# Altium schematic symbol library iMX6 Rex Development Baseboard V1I1.SCHLIB: 136 symbols (part 1 of 3)
Pins are listed as number, name and electrical type; pins without a type are passive.

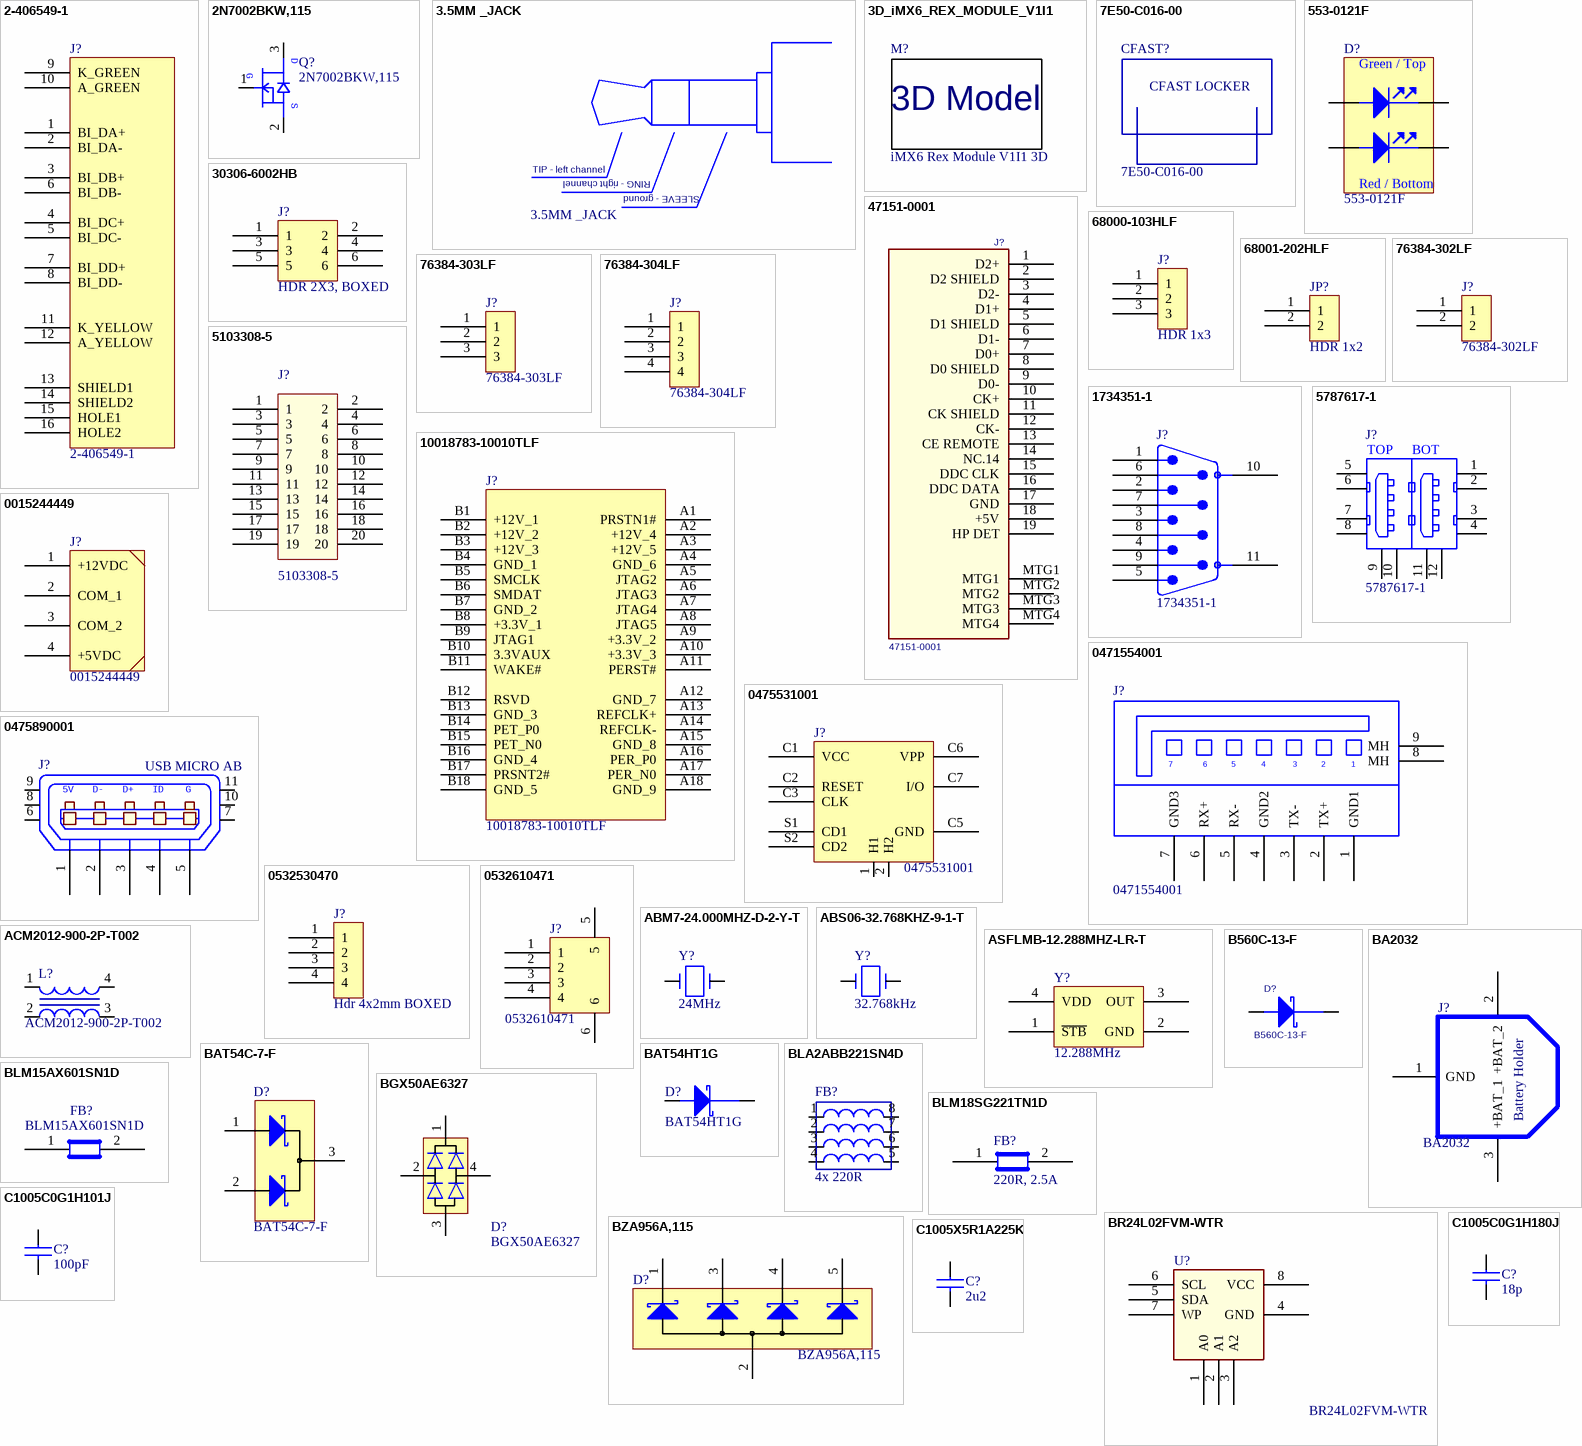
[diagram p0: symbols 2-406549-1 to C1005X5R1A225K]

## 2-406549-1
designator J?
CONN MOD JACK 8POS R/A G-Y PCB; Manufacturer: Tyco; .Checked PCB: used; Number of Positions: 8p8c (RJ45, Ethernet); Number of Ports: 1; Shielding: Shielded, EMI Finger; Ratings: Cat5; LED Color: Yellow - Green; Tab Direction: Up; .Checked SCH: used; Category: Connectors, Interconnects; Connector Type: Jack; Manufacturer Part Number: 2-406549-1; Price 1k [$]: 1.73278; Supplier: Digikey; Supplier Part Number: A97715-ND; Value: 2-406549-1; Supplier 1: Digi-Key; Supplier Part Number 1: A97715-ND; RoHS: RoHS Compliant; Stock 1: 9021; Pricing 1: 1=3.42 (USD); Number of Positions/Contacts: 8p8c (RJ45, Ethernet); Number of Rows: 1; Mounting Type: Through Hole; Orientation: 90° Angle (Right); Termination: Solder; Features: Board Lock; Packaging: Tray; Housing Material: Thermoplastic; Contact Material: Phosphor Bronze; Contact Finish: Gold; Operating Temperature: -40°C ~ 85°C; ComponentLink1URL: http://documents.tycoelectronics.com/commerce/DocumentDelivery/DDEController?Action=srchrtrv&DocNm=406549&DocType=CD&DocLang=EN; ComponentLink1Description: http://documents.tycoelectronics.com/commerce/DocumentDelivery/DDEController?Action=srchrtrv&DocNm=406549&DocType=CD&DocLang=EN
footprint RJ45LED
pins: 1 BI_DA+, 2 BI_DA-, 3 BI_DB+, 4 BI_DC+, 5 BI_DC-, 6 BI_DB-, 7 BI_DD+, 8 BI_DD-, 9 K_GREEN, 10 A_GREEN, 11 K_YELLOW, 12 A_YELLOW, 13 SHIELD1, 14 SHIELD2, 15 HOLE1, 16 HOLE2

## 2N7002BKW,115
designator Q?
MOSFET N-CH 60V 310MA SOT323; Manufacturer: NXP Semiconductors; FET Type: MOSFET N-Channel, Metal Oxide; FET Feature: Logic Level Gate; Rds On (Max) @ Id, Vgs: 1.6 Ohm @ 500mA, 10V; Vgs(th) (Max) @ Id: 2.1V @ 250µA; Gate Charge (Qg) @ Vgs: 0.6nC @ 4.5V; Input Capacitance (Ciss) @ Vds: 50pF @ 10V; Power - Max: 275mW; .Checked PCB: RF; Supplier 1: Digi-Key; Supplier Part Number 1: 568-5980-1-ND; Manufacturer Part Number: 2N7002BKW,115; RoHS: RoHS Compliant; Category: Discrete Semiconductor Products; Stock 1: 15666; Pricing 1: 1=0.39, 10=0.354, 25=0.2548, 100=0.1983, 250=0.12456, 500=0.10616, 1000=0.07233 (USD); Drain to Source Voltage (Vdss): 60V; Current - Continuous Drain (Id) @ 25° C: 310mA; Mounting Type: Surface Mount; Package / Case: SC-70, SOT-323; Supplier Device Package: SC-70; Packaging: Cut Tape (CT); ComponentLink1URL: http://www.nxp.com/documents/data_sheet/2N7002BKW.pdf; ComponentLink1Description: http://www.nxp.com/documents/data_sheet/2N7002BKW.pdf; .Checked SCH: RF
footprint SC70_SOT323
pins: 1 GATE, 2 SOURCE, 3 DRAIN
text: D; G; S

## 3.5MM _JACK
designator *?  (graphical)
text: TIP - left channel; RING - right channel; SLEEVE - ground

## 3D_iMX6_REX_MODULE_V1I1
designator M?, comment iMX6 Rex Module V1I1 3D  (no BOM)
Printed Circuit Board; .Creator: MM; Category: 3D Model
footprint iMX6 Rex Module 3D (.Creator MM)

## 7E50-C016-00
designator CFAST?
CF CARD EJECT/LATCHING RETAINER; Manufacturer: 3M; Accessory Type: Latch Retainer; For Use With/Related Products: CompactFlash® - Type II; .Checked PCB: RF; Supplier 1: Digi-Key; Supplier Part Number 1: 3M9681-ND; Manufacturer Part Number: 7E50-C016-00; RoHS: RoHS Compliant; Category: Connectors, Interconnects; Stock 1: 1200; Pricing 1: 1=2.62, 10=2.377, 50=2.134, 100=2.037, 250=1.843, 500=1.6975, 1000=1.455, 2500=1.358, 5000=1.2901 (USD); Packaging: Tray; ComponentLink1URL: http://multimedia.3m.com/mws/mediawebserver?mwsId=SSSSSu7zK1fslxtUmYtxPY_Zev7qe17zHvTSevTSeSSSSSS--; ComponentLink1Description: http://multimedia.3m.com/mws/mediawebserver?mwsId=SSSSSu7zK1fslxtUmYtxPY_Zev7qe17zHvTSevTSeSSSSSS--; .Checked SCH: RF
footprint CFAST_LOCKER
text: CFAST LOCKER

## 553-0121F
designator D?
LED 2HI 3MM GREEN OVER RED PCMNT; Manufacturer: Dialight; .Checked PCB: used; Color: Green, Red; Wavelength - Peak: 563nm, 650nm; Voltage Rating: 2.1V Green, 2V Red; Current: 10mA; Millicandela Rating: 16mcd Green, 10mcd Red; Lens Type: Diffused, Tinted; Lens Style/Size: Round with Domed Top, 3mm; Configuration: 2 High; .Checked SCH: used; Category: Optoelectronics; Family: LEDs - Circuit Board Indicators, Arrays, Light Bars, Bar Graphs; Manufacturer Part Number: 553-0121F; Price 1k [$]: 0.63000; Supplier: Digikey; Supplier Part Number: 350-1822-ND; Value: 553-0121F; Supplier 1: Digi-Key; Supplier Part Number 1: 350-1822-ND; RoHS: RoHS Compliant; Stock 1: 5551; Pricing 1: 1=1.68, 25=1.05, 100=0.945, 250=0.84, 500=0.714, 1000=0.588, 5000=0.525 (USD); Viewing Angle: -; Mounting Type: Through Hole, Right Angle; Packaging: Bulk; ComponentLink1URL: http://www.dialight.com/Assets/Drawings/2D_Drawings_DrawingDetailedSpec/C17277.pdf; ComponentLink1Description: http://www.dialight.com/Assets/Drawings/2D_Drawings_DrawingDetailedSpec/C17277.pdf
footprint 553-0121F
pins: 1 cathode, 2 ANODE, 3 cathode, 4 ANODE
text: Green / Top; Red / Bottom

## 30306-6002HB
designator J?, comment HDR 2X3, BOXED
CONN HEADER 6POS DL STR GOLD; Manufacturer: 3M; Manufacturer Part Number: 30306-6002HB; Connector Type: Header, Shrouded; Number of Positions: 6; Number of Positions Loaded: All; Pitch: 0.100" (2.54mm); .Creator: MM; Supplier 1: Digi-Key; RoHS: RoHS Compliant; Category: Connectors, Interconnects; Stock 1: 1262; Pricing 1: 1=0.64, 10=0.6, 25=0.54, 50=0.48, 100=0.46, 250=0.42, 500=0.4, 1000=0.33, 2500=0.3 (USD); Packaging: Bulk; Contact Type: Male Pin; Number of Rows: 2; Row Spacing: 0.100" (2.54mm); Contact Mating Length: 0.236" (6.00mm); Mounting Type: Through Hole; Termination: Solder; Fastening Type: -; Features: -; Contact Finish: Gold; Contact Finish Thickness: Flash; Color: Black; ComponentLink1URL: http://multimedia.3m.com/mws/mediawebserver?6666660Zjcf6lVs6EVs666UdhCOrrrrQ-; ComponentLink1Description: http://multimedia.3m.com/mws/mediawebserver?6666660Zjcf6lVs6EVs666UdhCOrrrrQ-; Supplier Part Number 1: 3M15451-ND; .Checked PCB: MM; .Checked SCH: MM
footprint HDR_2x3_2.54mm_BOXED (Creator MM)
pins: 1, 2, 3, 4, 5, 6

## 47151-0001
designator J?
CONN RCPT 19POS HDMI RT ANG SMD; Manufacturer: Molex Connector Corporation; .Checked PCB: used; Number of Positions: 19; Pitch: 0.50mm (.020"); Gender: Receptacle; .Checked SCH: used; Category: Connectors, Interconnects; Connector Type: HDMI; Family: USB, IEEE-1394 (Firewire), DVI, HDMI; Manufacturer Part Number: 47151-0001; Operating Temperature: -20°C to +85°C; Price 1k [$]: 1.74610; Supplier: Digikey; Supplier Part Number: WM19086CT-ND; Value: 47151-0001; Supplier 1: Digi-Key; Supplier Part Number 1: WM19086CT-ND; RoHS: RoHS Compliant; Stock 1: 2756; Pricing 1: 1=3.1, 10=2.57, 50=2.1456, 100=1.9034 (USD); Number of Contacts: 19; Specifications: -; Mounting Type: Surface Mount, Right Angle, Horizontal; Features: Detent Lock; Packaging: Cut Tape (CT); Ingress Protection: -; ComponentLink1URL: http://www.molex.com/pdm_docs/sd/471510001_sd.pdf; ComponentLink1Description: http://www.molex.com/pdm_docs/sd/471510001_sd.pdf
footprint HDMI
pins: 1 D2+, 2 D2 SHIELD, 3 D2-, 4 D1+, 5 D1 SHIELD, 6 D1-, 7 D0+, 8 D0 SHIELD, 9 D0-, 10 CK+, 11 CK SHIELD, 12 CK-, 13 CE REMOTE, 14 NC.14, 15 DDC CLK, 16 DDC DATA, 17 GND, 18 +5V, 19 HP DET, MTG1, MTG2, MTG3, MTG4

## 68000-103HLF
designator J?, comment HDR 1x3
BERGSTIK II .100" SR STRAIGHT; Manufacturer: FCI; Manufacturer Part Number: 68000-103HLF; Connector Type: Header, Unshrouded; Number of Positions: 3; Number of Positions Loaded: All; Pitch: 0.100" (2.54mm); .Creator: MM; Supplier 1: Digi-Key; RoHS: RoHS Compliant; Category: Connectors, Interconnects; Stock 1: 37214; Pricing 1: 1=0.15, 10=0.145, 25=0.108, 50=0.0924 (USD); Packaging: Bulk; Contact Type: Male Pin; Number of Rows: 1; Row Spacing: -; Contact Mating Length: 0.230" (5.84mm); Mounting Type: Through Hole; Termination: Solder; Fastening Type: -; Features: -; Contact Finish: Gold or Gold, GXT™; Contact Finish Thickness: 30µin (0.76µm); Color: Black; ComponentLink1URL: http://portal.fciconnect.com/Comergent//fci/drawing/68000.pdf; ComponentLink1Description: http://portal.fciconnect.com/Comergent//fci/drawing/68000.pdf; Supplier Part Number 1: 609-3461-ND; .Checked PCB: MM; .Checked SCH: MM
footprint Hdr_1x3_2.54mm (Creator MM)
pins: 1, 2, 3

## 68001-202HLF
designator JP?, comment HDR 1x2
BERGSTIK II .100" SR STRAIGHT; Manufacturer: FCI; Manufacturer Part Number: 68001-202HLF; Connector Type: Header, Unshrouded; Number of Positions: 2; Number of Positions Loaded: All; Pitch: 0.100" (2.54mm); .Checked PCB: RF; Supplier 1: Digi-Key; Supplier Part Number 1: 609-3469-ND; RoHS: RoHS Compliant; Category: Connectors, Interconnects; Stock 1: 13680; Pricing 1: 1=0.45, 10=0.265, 100=0.1172, 250=0.09828, 500=0.09072, 1000=0.07938, 5000=0.05065 (USD); Contact Type: Male Pin; Number of Rows: 1; Row Spacing: -; Contact Mating Length: 0.230" (5.84mm); Mounting Type: Through Hole; Termination: Solder; Fastening Type: -; Features: -; Contact Finish: Gold; Contact Finish Thickness: 15µin (0.38µm); Color: Black; Packaging: Bulk; ComponentLink1URL: http://portal.fciconnect.com/res/en/pdffiles/doc_search/68000.pdf; ComponentLink1Description: http://portal.fciconnect.com/res/en/pdffiles/doc_search/68000.pdf; .Checked SCH: RF
footprint HDR_1x2_2.54MM
pins: 1, 2

## 76384-302LF
designator J?
CONN HEADER 2POS .100" STR GOLD; Manufacturer: FCI; Connector Type: Header, Shrouded; Number of Positions: 2; Number of Positions Loaded: All; Pitch: 0.100" (2.54mm); .Creator: MM; Supplier 1: Digi-Key; Manufacturer Part Number: 76384-302LF; RoHS: RoHS Compliant; Category: Connectors, Interconnects; Stock 1: 3152; Pricing 1: 1=0.47, 10=0.442, 25=0.3976, 50=0.3532, 100=0.3386, 250=0.30912, 500=0.2944, 1000=0.24288, 2500=0.2208 (USD); Packaging: Tube; Contact Type: Male Pin; Number of Rows: 1; Row Spacing: -; Contact Mating Length: 0.197" (5.00mm); Mounting Type: Through Hole; Termination: Solder; Fastening Type: Friction Lock; Features: -; Contact Finish: Gold, GXT™; Contact Finish Thickness: 30µin (0.76µm); Color: Black; ComponentLink1URL: http://portal.fciconnect.com/Comergent//fci/drawing/76384.pdf; ComponentLink1Description: http://portal.fciconnect.com/Comergent//fci/drawing/76384.pdf; Supplier Part Number 1: 609-1304-ND; .Checked PCB: MM; .Checked SCH: MM
footprint HDR_1x2_2.54MM_SHDR (Creator MM)
pins: 1, 2

## 76384-303LF
designator J?
CONN HEADER 3POS .100" STR GOLD; Manufacturer: FCI; Connector Type: Header, Shrouded; Number of Positions: 3; Number of Positions Loaded: All; Pitch: 0.100" (2.54mm); .Creator: MM; Supplier 1: Digi-Key; Manufacturer Part Number: 76384-303LF; RoHS: RoHS Compliant; Category: Connectors, Interconnects; Stock 1: 1441; Pricing 1: 1=0.59, 10=0.556, 25=0.5, 50=0.4444, 100=0.426, 250=0.38892, 500=0.3704, 1000=0.30558, 2500=0.2778 (USD); Packaging: Tube; Contact Type: Male Pin; Number of Rows: 1; Row Spacing: -; Contact Mating Length: 0.197" (5.00mm); Mounting Type: Through Hole; Termination: Solder; Fastening Type: Friction Lock; Features: -; Contact Finish: Gold, GXT™; Contact Finish Thickness: 30µin (0.76µm); Color: Black; ComponentLink1URL: http://portal.fciconnect.com/Comergent//fci/drawing/76384.pdf; ComponentLink1Description: http://portal.fciconnect.com/Comergent//fci/drawing/76384.pdf; Supplier Part Number 1: 609-1305-ND; .Checked PCB: MM; .Checked SCH: MM
footprint HDR_1x3_2.54MM_SHDR_V2 (Creator MM, Another 3D model.)
pins: 1, 2, 3

## 76384-304LF
designator J?
CONN HEADER 4POS .100" STR GOLD; Manufacturer: FCI; Connector Type: Header, Shrouded; Number of Positions: 4; Number of Positions Loaded: All; Pitch: 0.100" (2.54mm); .Checked PCB: RF; Supplier 1: Digi-Key; Supplier Part Number 1: 609-1306-ND; Manufacturer Part Number: 76384-304LF; RoHS: RoHS Compliant; Category: Connectors, Interconnects; Stock 1: 2388; Pricing 1: 1=1.09, 10=0.762, 100=0.5116, 250=0.4354, 500=0.41364, 1000=0.37009, 5000=0.28954, 10000=0.28301, 25000=0.27213 (USD); Contact Type: Male Pin; Number of Rows: 1; Row Spacing: -; Contact Mating Length: 0.197" (5.00mm); Mounting Type: Through Hole; Termination: Solder; Fastening Type: Friction Lock; Features: -; Contact Finish: Gold, GXT™; Contact Finish Thickness: 30µin (0.76µm); Color: Black; Packaging: Tube; ComponentLink1URL: http://portal.fciconnect.com/res/en/pdffiles/doc_search/76384.pdf; ComponentLink1Description: http://portal.fciconnect.com/res/en/pdffiles/doc_search/76384.pdf; .Checked SCH: RF
footprint HDR_1x4_2.54MM_SHDR
pins: 1, 2, 3, 4

## 1734351-1
designator J?
CONN D-SUB PLUG R/A 9POS GOLD/FL; Manufacturer: TE Connectivity; .Checked PCB: used; Connector Type: Plug, Male Pins; Number of Positions: 9; Flange Feature: Mating Side; Female Screwlock (4-40); Voltage Rating: 250V; Current Rating: 2A; .Checked SCH: used; Category: Connectors, Interconnects; Family: D-Sub; Manufacturer Part Number: 1734351-1; Operating Temperature: -55°C ~ 105°C; Price 1k [$]: 0.63612; Supplier: Digikey; Supplier Part Number: A35105-ND; Value: 1734351-1; Supplier 1: Digi-Key; Supplier Part Number 1: A35105-ND; RoHS: RoHS Compliant; Stock 1: 11510; Pricing 1: 1=1.17, 10=1.026, 25=0.9656, 50=0.9254, 100=0.8852, 250=0.80476, 500=0.72428, 1000=0.64381, 2500=0.58345 (USD); Connector Style: D-Sub; Number of Rows: 2; Shell Size, Connector Layout: 1 (DE, E); Contact Type: Signal; Mounting Type: Through Hole, Right Angle; Termination: Solder; Features: Board Lock, Grounding Indents; Shell Material, Finish: Steel, Nickel Plated; Contact Finish: Gold; Contact Finish Thickness: Flash; Ingress Protection: -; Housing Material: Polybutylene Terephthalate (PBT); Color: Black; ComponentLink1URL: http://documents.tycoelectronics.com/commerce/DocumentDelivery/DDEController?Action=srchrtrv&DocNm=1734351&DocType=CD&DocLang=EN; ComponentLink1Description: http://documents.tycoelectronics.com/commerce/DocumentDelivery/DDEController?Action=srchrtrv&DocNm=1734351&DocType=CD&DocLang=EN
footprint DBA9_M_RA
pins: 1, 2, 3, 4, 5, 6 14, 7 15, 8 16, 9 17, 10 SHIELD, 11 SHIELD

## 5103308-5
designator J?
CONN HEADER LOPRO STR 20POS GOLD; Manufacturer: TE Connectivity; Connector Type: Header, Shrouded; Number of Positions: 20; Number of Positions Loaded: All; Pitch: 0.100" (2.54mm); .Creator: MM; Supplier 1: Digi-Key; Manufacturer Part Number: 5103308-5; RoHS: RoHS Compliant; Category: Connectors, Interconnects; Stock 1: 3482; Pricing 1: 1=1.9, 25=1.6212, 50=1.5508, 100=1.4803, 250=1.33928, 500=1.23356, 1000=1.05734, 2500=0.98685, 5000=0.9375 (USD); Packaging: Tube; Contact Type: Male Pin; Number of Rows: 2; Row Spacing: 0.100" (2.54mm); Contact Mating Length: 0.240" (6.10mm); Mounting Type: Through Hole; Termination: Solder; Fastening Type: -; Features: -; Contact Finish: Gold or Gold-Palladium; Contact Finish Thickness: 15µin (0.38µm); Color: Black; ComponentLink1URL: http://www.te.com/commerce/DocumentDelivery/DDEController?Action=srchrtrv&DocNm=5103308&DocType=Customer+Drawing&DocLang=English; ComponentLink1Description: http://www.te.com/commerce/DocumentDelivery/DDEController?Action=srchrtrv&DocNm=5103308&DocType=Customer+Drawing&DocLang=English; Supplier Part Number 1: A33165-ND; .Checked PCB: MM; .Checked SCH: MM
footprint HDR_2x10_2.54mm_BOXED (Creator MM)
pins: 1, 2, 3, 4, 5, 6, 7, 8, 9, 10, 11, 12, 13, 14, 15, 16, 17, 18, 19, 20

## 5787617-1
designator J?
CONN RCPT R/A 4OVER4POS GOLD PCB; Manufacturer: TE Connectivity; .Checked PCB: used; Connector Type: USB - A, Stacked; Number of Contacts: 8; Gender: Receptacle; Specifications: USB 2.0; .Checked SCH: used; Category: Connectors, Interconnects; Family: USB, IEEE-1394 (Firewire), DVI, HDMI; Manufacturer Part Number: 5787617-1; Price 1k [$]: 1.68753; Supplier: Digikey; Supplier Part Number: A31728-ND; Value: 5787617-1; Supplier 1: Digi-Key; Supplier Part Number 1: A31728-ND; RoHS: RoHS Compliant; Stock 1: 5401; Pricing 1: 1=3.33, 10=3.197, 25=2.9308, 50=2.7978, 100=2.6645, 250=2.33144, 500=2.26484, 1000=1.93178, 2500=1.79855 (USD); Mounting Type: Through Hole, Right Angle, Horizontal; Features: Board Lock; Packaging: Tray; Ingress Protection: -; ComponentLink1URL: http://documents.tycoelectronics.com/commerce/DocumentDelivery/DDEController?Action=srchrtrv&DocNm=5787617&DocType=CD&DocLang=EN; ComponentLink1Description: http://documents.tycoelectronics.com/commerce/DocumentDelivery/DDEController?Action=srchrtrv&DocNm=5787617&DocType=CD&DocLang=EN
footprint USB-2A
pins: 1 VBUS, 2 D-, 3 D+, 4 GND, 5 VBUS2, 6 D2-, 7 D2+, 8 GND, 9 SHIELD, 10 SHIELD, 11 SHIELD, 12 SHIELD
text: TOP; BOT

## 10018783-10010TLF
designator J?
CONN PCI EXPRESS 36POS VERT PCB; Manufacturer 1: FCI; Card Type: PCI Express™; Gender: Female; Number of Positions: 36; Card Thickness: 0.062" (1.57mm); Pitch: 0.039" (1.00mm); Material - Insulation: Polyamide (PA), Nylon, Glass Filled; Read Out: Dual; .Creator: MM; Supplier 1: Digi-Key; RoHS: RoHS Compliant; Category: Connectors, Interconnects; Pricing 1: 1=0.74, 10=0.69, 50=0.552, 100=0.529, 250=0.483, 500=0.46, 1000=0.3795, 2500=0.345, 5000=0.3335 (USD); Packaging: Tray; Number of Positions/Bay/Row: -; Number of Rows: 2; Features: Board Guide, Locking Ramp; Mounting Type: Through Hole; Termination: Solder, Staggered; Contact Material: Copper Alloy; Contact Finish: Gold; Contact Finish Thickness: 30µin (0.76µm); Contact Type: Cantilever; Color: Black; Flange Feature: -; Operating Temperature: -55°C ~ 85°C; ComponentLink1URL: http://portal.fciconnect.com/Comergent//fci/drawing/10018783.pdf; ComponentLink1Description: http://portal.fciconnect.com/Comergent//fci/drawing/10018783.pdf; .Checked PCB: MM; .Checked SCH: MM; Manufacturer Part Number 1: 10018783-10010TLF; Supplier Stock 1: 832; Supplier Part Number 1: 609-1964-ND
footprint Mini_PCIe_36pin (Creator MM)
pins: A1 PRSTN1#, A2 +12V_4, A3 +12V_5, A4 GND_6, A5 JTAG2, A6 JTAG3, A7 JTAG4, A8 JTAG5, A9 +3.3V_2, A10 +3.3V_3, A11 PERST#, A12 GND_7, A13 REFCLK+, A14 REFCLK-, A15 GND_8, A16 PER_P0, A17 PER_N0, A18 GND_9, B1 +12V_1, B2 +12V_2, B3 +12V_3, B4 GND_1, B5 SMCLK, B6 SMDAT, B7 GND_2, B8 +3.3V_1, B9 JTAG1, B10 3.3VAUX, B11 WAKE#, B12 RSVD, B13 GND_3, B14 PET_P0, B15 PET_N0, B16 GND_4, B17 PRSNT2#, B18 GND_5

## 0015244449
designator J?
CONN HEADER 4POS .200 VERT; Manufacturer: Molex Inc; Connector Type: Header, Shrouded; Number of Positions: 4; Number of Positions Loaded: All; Pitch: 0.200" (5.08mm); .Creator: MM; Supplier 1: Digi-Key; Manufacturer Part Number: 0015244449; RoHS: RoHS Compliant; Category: Connectors, Interconnects; Stock 1: 933; Pricing 1: 1=0.83, 10=0.729, 25=0.6864, 50=0.6578, 100=0.6292, 250=0.572, 500=0.5148, 1000=0.4576, 2500=0.4147 (USD); Packaging: Tray; Contact Type: Male Pin; Number of Rows: 1; Row Spacing: -; Contact Mating Length: 0.171" (4.34mm); Mounting Type: Through Hole; Termination: Solder; Fastening Type: Locking Ramp; Features: -; Contact Finish: Tin; Contact Finish Thickness: 100µin (2.54µm); Color: Beige; ComponentLink1URL: http://www.molex.com/pdm_docs/sd/015244449_sd.pdf; ComponentLink1Description: http://www.molex.com/pdm_docs/sd/015244449_sd.pdf; Supplier Part Number 1: WM9132-ND; .Checked PCB: MM; .Checked SCH: MM
footprint 015244449 (Creator MM)
pins: 1 +12VDC, 2 COM_1, 3 COM_2, 4 +5VDC

## 0471554001
designator J?
CONN SATA HDR 7POS PCB VERT; Manufacturer: Molex Inc; Connector Style: Header, Shrouded; Number of Positions: 7; .Checked PCB: RF; Supplier 1: Digi-Key; Supplier Part Number 1: WM4059-ND; Manufacturer Part Number: 0471554001; RoHS: RoHS Compliant; Category: Connectors, Interconnects; Stock 1: 8065; Pricing 1: 1=1.37, 10=1.065, 25=0.9928, 50=0.9026, 100=0.8123, 250=0.68592, 500=0.6498, 1000=0.5776, 2500=0.48013 (USD); Connector Type: SATA; Mounting Type: Through Hole; Termination: Solder; Features: Board Lock; Contact Finish: Gold; Contact Finish Thickness: Flash; Packaging: Tray; ComponentLink1URL: http://www.molex.com/elqNow/elqRedir.htm?ref=http://www.molex.com/pdm_docs/sd/471554001_sd.pdf; ComponentLink1Description: http://www.molex.com/elqNow/elqRedir.htm?ref=http://www.molex.com/pdm_docs/sd/471554001_sd.pdf; .Checked SCH: RF
footprint SATA_VERTICAL
pins: 1 GND1, 2 TX+, 3 TX-, 4 GND2, 5 RX-, 6 RX+, 7 GND3, 8 MH, 9 MH

## 0475531001
designator J?
CONN CARD HOLDER SIM 6POS SMD; Manufacturer: Molex Inc; Card Type: SIM Card; Number of Positions: 8 (6 + 2); Connector Type: Connector; Insertion, Removal Method: Push In, Push Out; .Creator: MM; Supplier 1: Digi-Key; Manufacturer Part Number: 0475531001; RoHS: RoHS Compliant; Category: Connectors, Interconnects; Stock 1: 8474; Pricing 1: 1=2.94, 10=2.822, 25=2.5868, 50=2.4694, 100=2.3518, 250=2.05784 (USD); Packaging: Cut Tape (CT); Ejector Side: -; Mounting Type: Surface Mount, Right Angle; Features: Switch; Height Above Board: 0.071" (1.80mm); Mounting Feature: Normal, Standard - Top; Contact Finish: Gold; Contact Finish Thickness: 30µin (0.76µm); ComponentLink1URL: http://www.molex.com/pdm_docs/sd/475531001_sd.pdf; ComponentLink1Description: http://www.molex.com/pdm_docs/sd/475531001_sd.pdf; Supplier Part Number 1: WM6739CT-ND; .Checked PCB: MM; .Checked SCH: MM
footprint SIM_CARD_PUSH (Creator MM)
pins: 1 H1, 2 H2, C1 VCC, C2 RESET, C3 CLK, C5 GND, C6 VPP, C7 I/O, S1 CD1, S2 CD2

## 0475890001
designator J?, comment USB MICRO AB
CONN RCPT MICRO USB AB R/A SMD; Manufacturer: Molex Inc; Manufacturer Part Number: 0475890001; Connector Type: USB - micro AB; Number of Contacts: 5; Gender: Receptacle; .Creator: MM; Supplier 1: Digi-Key; RoHS: RoHS Compliant; Category: Connectors, Interconnects; Stock 1: 12754; Pricing 1: 1=0.81, 10=0.764, 25=0.6872, 50=0.6108, 100=0.5854, 250=0.53452, 500=0.50908 (USD); Packaging: Cut Tape (CT); Specifications: -; Mounting Type: Surface Mount, Right Angle, Horizontal; Features: Board Guide, Shielded; Ingress Protection: -; ComponentLink1URL: http://www.molex.com/pdm_docs/sd/475890001_sd.pdf; ComponentLink1Description: http://www.molex.com/pdm_docs/sd/475890001_sd.pdf; Supplier Part Number 1: WM17143CT-ND; .Checked PCB: MM; .Checked SCH: MM
footprint USB_Micro_AB (Creator MM)
pins: 1 P1, 2 P2, 3 P3, 4 P4, 5 P5, 6, 7, 8, 9, 10, 11
text: 5V; D-; D+; ID; G

## 0532530470
designator J?, comment Hdr 4x2mm BOXED
CONN HEADER 4POS 2MM VERT TIN; Manufacturer: Molex Inc; Manufacturer Part Number: 0532530470; Connector Type: Header, Shrouded; Number of Positions: 4; Number of Positions Loaded: All; Pitch: 0.079" (2.00mm); .Creator: MM; Supplier 1: Digi-Key; RoHS: RoHS Compliant; Category: Connectors, Interconnects; Stock 1: 5160; Pricing 1: 1=0.23, 10=0.211, 50=0.1576, 100=0.1464, 250=0.12948, 500=0.12386, 1000=0.10134, 2500=0.0929, 5000=0.09008 (USD); Packaging: Tray; Contact Type: Male Pin; Number of Rows: 1; Row Spacing: -; Contact Mating Length: 0.130" (3.30mm); Mounting Type: Through Hole; Termination: Press-Fit; Fastening Type: -; Features: -; Contact Finish: Tin; Contact Finish Thickness: -; Color: -; ComponentLink1URL: http://www.molex.com/pdm_docs/sd/532530270_sd.pdf; ComponentLink1Description: http://www.molex.com/pdm_docs/sd/532530270_sd.pdf; Supplier Part Number 1: WM19006-ND; .Checked PCB: MM; .Checked SCH: MM
footprint HDR_1x4_2MM_SHDR (Creator MM)
pins: 1, 2, 3, 4

## 0532610471
designator J?
CONN HEADER 4POS 1.25MM R/A SMD; Manufacturer: Molex Inc; Connector Type: Header, Shrouded; Number of Positions: 4; Number of Positions Loaded: All; Pitch: 0.049" (1.25mm); .Creator: MM; Supplier 1: Digi-Key; Manufacturer Part Number: 0532610471; RoHS: RoHS Compliant; Category: Connectors, Interconnects; Stock 1: 9616; Pricing 1: 1=1.5, 10=1.318, 25=1.2404, 50=1.1888, 100=1.1372, 250=1.0338, 500=0.9304 (USD); Packaging: Cut Tape (CT); Contact Type: Blade Pin; Number of Rows: 1; Row Spacing: -; Contact Mating Length: -; Mounting Type: Surface Mount, Right Angle; Termination: Solder; Fastening Type: -; Features: Solder Retention; Contact Finish: Tin; Contact Finish Thickness: 39µin (1.00µm); Color: Natural; ComponentLink1URL: http://www.molex.com/pdm_docs/sd/532610471_sd.pdf; ComponentLink1Description: http://www.molex.com/pdm_docs/sd/532610471_sd.pdf; Supplier Part Number 1: WM7622CT-ND; .Checked PCB: MM; .Checked SCH: MM
footprint 0532610471 (Creator MM)
pins: 1, 2, 3, 4, 5, 6

## ABM7-24.000MHZ-D-2-Y-T
designator Y?, comment 24MHz
CRYSTAL 24.0000MHZ 18PF SMD; Manufacturer: Abracon Corporation; Manufacturer Part Number: ABM7-24.000MHZ-D-2-Y-T; Frequency Stability: ±30ppm; Frequency Tolerance: ±20ppm; ESR (Equivalent Series Resistance): 50 Ohm; Operating Mode: Fundamental; .Creator: MM; .Checked PCB: RF, used by MM; .Checked SCH: MM, checked by RF; Supplier 1: Digi-Key; RoHS: RoHS Compliant; Category: Crystals and Oscillators; Stock 1: 53059; Pricing 1: 1=1.31, 10=1.138, 50=0.9976, 100=0.7875, 500=0.665 (USD); Type: MHz Crystal; Frequency: 24MHz; Load Capacitance: 18pF; Operating Temperature: -40°C ~ 85°C; Ratings: -; Mounting Type: Surface Mount; Package / Case: 2-SMD; Size / Dimension: 0.236" L x 0.138" W (6.00mm x 3.50mm); Height: 0.055" (1.40mm); Packaging: Cut Tape (CT); ComponentLink1URL: http://www.abracon.com/Resonators/abm7.pdf; ComponentLink1Description: http://www.abracon.com/Resonators/abm7.pdf; Supplier Part Number 1: 535-9845-1-ND
footprint ABM7_v1_1 (Corrected from 2.2 to 2.4 between pads)
pins: 1, 2

## ABS06-32.768KHZ-9-1-T
designator Y?, comment 32.768kHz
CRYSTAL 32.768 KHZ 9.0 PF SMD; Manufacturer: Abracon Corporation; Manufacturer Part Number: ABS06-32.768KHZ-9-1-T; .Checked PCB: used; Frequency Stability: ±10ppm; Load Capacitance: 9pF; Operating Mode: Fundamental; .Checked SCH: used; Category: Crystals and Oscillators; Operating Temperature: -40°C ~ 85°C; Package / Case: 2-SMD, No Lead (DFN, LCC); Price 1k [$]: 1.24500; Value: 32.768kHz; Frequency: 32.768kHz; Supplier Part Number: 535-10247-1-ND; Supplier: Digikey; Supplier 1: Digi-Key; Supplier Part Number 1: 535-10247-1-ND; RoHS: RoHS Compliant; Stock 1: 5693; Pricing 1: 1=2.81, 10=2.438, 50=2.1376, 100=1.6875, 500=1.425 (USD); Type: kHz Crystal (Tuning Fork); Frequency Tolerance: ±10ppm; Mounting Type: Surface Mount; Size / Dimension: 0.079" L x 0.047" W (2.00mm x 1.20mm); Height: 0.024" (0.60mm); Packaging: Cut Tape (CT); ComponentLink1URL: http://www.abracon.com/Resonators/ABS06.pdf; ComponentLink1Description: http://www.abracon.com/Resonators/ABS06.pdf
footprint ABS06
pins: 1, 2

## ACM2012-900-2P-T002
designator L?
CHOKE COMM MODE 90 OHM .4A SMD; Manufacturer: TDK Corporation; Filter Type: Data, Signal Line; Number of Lines: 2; Current: 400mA; DC Resistance (DCR): 190 mOhm Max; Impedance: 90 Ohm; Resistance (Ohms): 8.2K; Power (Watts): 0.063W, 1/16W; Temperature Coefficient: ±100ppm/°C; Tolerance: ±1%; .Checked PCB: RF; Supplier 1: Digi-Key; Supplier Part Number 1: 445-2207-1-ND; Manufacturer Part Number: ACM2012-900-2P-T002; RoHS: RoHS Compliant; Category: Filters; Stock 1: 175768; Pricing 1: 1=0.48, 10=0.448, 50=0.42, 100=0.364, 500=0.308, 1000=0.252 (USD); Inductance: -; Mounting Type: Surface Mount; Size / Dimension: 0.079" L x 0.047" W (2.00mm x 1.20mm); Height (Max): 0.051" (1.30mm); Package / Case: 0805 (2012 Metric), 4 Lead; Operating Temperature: -25°C ~ 85°C; Packaging: Cut Tape (CT); ComponentLink1URL: http://www.tdk.co.jp/tefe02/e9719_acm2012.pdf; ComponentLink1Description: http://www.tdk.co.jp/tefe02/e9719_acm2012.pdf; Composition: Thick Film; Features: -; Height: 0.016" (0.40mm); Number of Terminations: 2; ComponentLink2URL: http://www.yageo.com/documents/recent/PYu-RC0402_51_RoHS_L_6.pdf; ComponentLink2Description: http://www.yageo.com/documents/recent/PYu-RC0402_51_RoHS_L_6.pdf; .Checked SCH: RF
footprint ACM2012
pins: 1, 2, 3, 4

## ASFLMB-12.288MHZ-LR-T
designator Y?, comment 12.288MHz
OSC MEMS 12.288 MHZ SMD; Manufacturer: Abracon Corporation; Manufacturer Part Number: ASFLMB-12.288MHZ-LR-T; Function: Standby (Power Down); Output: CMOS; Voltage - Supply: 1.8 V ~ 3.3 V; Frequency Stability: ±25ppm; Current - Supply (Max): 16mA; Current - Supply (Disable) (Max): 15µA; .Creator: MM; Supplier 1: Digi-Key; RoHS: RoHS Compliant; Category: Crystals and Oscillators; Stock 1: 5427; Pricing 1: 1=2.81, 10=2.438, 50=2.1376, 100=1.6875, 500=1.425 (USD); Packaging: Cut Tape (CT); Type: MEMS (Silicon); Frequency: 12.288MHz; Operating Temperature: -40°C ~ 85°C; Ratings: -; Mounting Type: Surface Mount; Size / Dimension: 0.197" L x 0.126" W (5.00mm x 3.20mm); Height: 0.035" (0.90mm); Package / Case: 4-SMD, No Lead (DFN, LCC); ComponentLink1URL: http://www.abracon.com/memspeedpro/MEMSpeedProFlyerII.pdf; ComponentLink1Description: http://www.abracon.com/memspeedpro/MEMSpeedProFlyerII.pdf; Supplier Part Number 1: 535-10982-1-ND; .Checked PCB: MM; .Checked SCH: MM
footprint ASFLMB (Creator MM)
pins: 1 ~{STB}, 2 GND, 3 OUT, 4 VDD

## B560C-13-F
designator D?
DIODE SCHOTTKY 60V 5A SMC; Manufacturer: Diodes Inc; .Checked PCB: used; Voltage - Forward (Vf) (Max) @ If: 700mV @ 5A; Speed: Fast Recovery =< 500ns, > 200mA (Io); Current - Reverse Leakage @ Vr: 500µA @ 60V; Capacitance @ Vr, F: 300pF @ 4V, 1MHz; .Checked SCH: used; Category: Discrete Semiconductor Products; Supplier Part Number: B560C-FDICT-ND; Manufacturer Part Number: B560C-13-F; Price 1k [$]: 0.42900; Value: B560C-13-F; Package / Case: DO-214AB, SMC; Supplier: Digikey; Family: Diodes, Rectifiers - Single; Voltage - DC Reverse (Vr) (Max): 60V; Current - Average Rectified (Io): 5A; Diode Type: Schottky; Supplier 1: Digi-Key; Supplier Part Number 1: B560C-FDICT-ND; RoHS: RoHS Compliant; Stock 1: 37770; Pricing 1: 1=0.99, 10=0.884, 100=0.702, 250=0.611, 500=0.546, 1000=0.429 (USD); Reverse Recovery Time (trr): -; Mounting Type: Surface Mount; Supplier Device Package: SMC; Packaging: Cut Tape (CT); ComponentLink1URL: http://www.diodes.com/datasheets/ds13012.pdf; ComponentLink1Description: http://www.diodes.com/datasheets/ds13012.pdf
footprint SMC
pins: 1 cathode, 2 ANODE

## BA2032
designator J?
HOLDER COIN CELL CR2032 EJECT; Manufacturer: MPD (Memory Protection Devices); Battery Type, Function: Coin Cell, Holder; Style: Holder (Open); Battery Cell Size: Coin, 20.0mm; Number of Cells: 1; Battery Series: 2032; .Creator: MM; .Checked SCH: RF, used by MM; Supplier 1: Digi-Key; Manufacturer Part Number: BA2032; RoHS: RoHS Compliant; Category: Battery Products; Stock 1: 59526; Pricing 1: 1=1.16, 10=1.077, 100=0.97, 500=0.83, 1000=0.72 (USD); Mounting Type: PCB, Through Hole; Termination Style: PC Pin; Height Above Board: 0.264" (6.71mm); Operating Temperature: -40°C ~ 225°C; ComponentLink1URL: http://www.memoryprotectiondevices.com/datasheets/BA2032-datasheet.pdf; ComponentLink1Description: http://www.memoryprotectiondevices.com/datasheets/BA2032-datasheet.pdf; Supplier Part Number 1: BA2032-ND; .Checked PCB: MM
footprint BA2032 (Creator MM. Wrong 3D model.)
pins: 1 GND, 2 +BAT_2, 3 +BAT_1
text: Battery Holder

## BAT54C-7-F
designator D?
DIODE SCHOTTKY DUAL 30V SOT23-3; Manufacturer: Diodes Inc; .Checked PCB: used; Current - Average Rectified (Io) (per Diode): 200mA (DC; Speed: Small Signal =< 200mA (Io), Any Speed; Voltage - Forward (Vf) (Max) @ If: 800mV @ 100mA; Current - Reverse Leakage @ Vr: 2µA @ 25V; Reverse Recovery Time (trr): 5ns; Diode Configuration: 1 Pair Common Cathode; .Checked SCH: used; Category: Discrete Semiconductor Products; Manufacturer Part Number: BAT54C-7-F; Package / Case: TO-236-3, SC-59, SOT-23-3; Price 1k [$]: 0.04500; Value: BAT54C-7-F; Family: Diodes, Rectifiers - Arrays; oltage - DC Reverse (Vr) (Max): 30V; Diode Type: Schottky; Supplier Part Number: BAT54C-FDICT-ND; Supplier: Digikey; Supplier 1: Digi-Key; Supplier Part Number 1: BAT54C-FDICT-ND; RoHS: RoHS Compliant; Stock 1: 67687; Pricing 1: 1=0.38, 10=0.255, 100=0.12, 250=0.08552, 500=0.06526, 1000=0.045 (USD); Voltage - DC Reverse (Vr) (Max): 30V; Mounting Type: Surface Mount; Supplier Device Package: SOT-23-3; Packaging: Cut Tape (CT); ComponentLink1URL: http://www.diodes.com/datasheets/ds11005.pdf; ComponentLink1Description: http://www.diodes.com/datasheets/ds11005.pdf
footprint SOT-23-3-123
pins: 1, 2, 3

## BAT54HT1G
designator D?
DIODE SCHOTTKY 30V 0.2A SOD323; Manufacturer: Fairchild Semiconductor; Current - Average Rectified (Io): 200mA; Voltage - Forward (Vf) (Max) @ If: 800mV @ 100mA; Speed: Small Signal =< 200mA (Io), Any Speed; Reverse Recovery Time (trr): 5ns; Current - Reverse Leakage @ Vr: 2µA @ 25V; Capacitance @ Vr, F: 10pF @ 1V, 1MHz; Thermal Resistance: 600°C/W Ja; .Creator: MM; .Checked PCB: RF, used by MM; Supplier 1: Digi-Key; Manufacturer Part Number: BAT54HT1G; RoHS: RoHS Compliant; Category: Discrete Semiconductor Products; Stock 1: 11388; Pricing 1: 1=0.3, 10=0.276, 25=0.1984, 100=0.1543, 250=0.09696, 500=0.0826, 1000=0.05628 (USD); Packaging: Cut Tape (CT); Diode Type: Schottky; Voltage - DC Reverse (Vr) (Max): 30V; Mounting Type: Surface Mount; Package / Case: SC-76, SOD-323; Supplier Device Package: SOD-323; Operating Temperature - Junction: -55°C ~ 150°C; ComponentLink1URL: http://www.fairchildsemi.com/ds/BA/BAT54HT1G.pdf; ComponentLink1Description: http://www.fairchildsemi.com/ds/BA/BAT54HT1G.pdf; Supplier Part Number 1: BAT54HT1GCT-ND; .Checked SCH: MM
footprint SOD323
pins: 1 Cathode, 2 Anode

## BGX50AE6327
designator D?
DIODE SWITCHING 50V SOT-143; Manufacturer: Infineon Technologies; .Checked PCB: used; Current - DC Forward (If): 140mA; Diode Type: Single Phase; Speed: Small Signal =< 200mA (Io), Any Speed; Reverse Recovery Time (trr): 6ns; .Checked SCH: used; Category: Discrete Semiconductor Products; Family: Bridge Rectifiers; Manufacturer Part Number: BGX50AE6327; Package / Case: TO-253-4, TO-253AA; Price 1k [$]: 0.10013; Supplier: Digikey; Supplier Part Number: BGX50AINCT-ND; Value: BGX50AE6327; Supplier 1: Digi-Key; Supplier Part Number 1: BGX50AINCT-ND; RoHS: RoHS Compliant; Stock 1: 438; Pricing 1: 1=0.47, 10=0.334, 100=0.2225, 500=0.12906, 1000=0.10013 (USD); Voltage - Peak Reverse (Max): 50V; Mounting Type: Surface Mount; Packaging: Cut Tape (CT); Supplier Device Package: PG-SOT143-4; ComponentLink1URL: http://www.infineon.com/dgdl/bgx50aseries.pdf?folderId=db3a30431400ef6801141cc1c4cd04e8&fileId=db3a30431400ef6801141cc423c404e9; ComponentLink1Description: http://www.infineon.com/dgdl/bgx50aseries.pdf?folderId=db3a30431400ef6801141cc1c4cd04e8&fileId=db3a30431400ef6801141cc423c404e9
footprint SOT143
pins: 1, 2, 3, 4

## BLA2ABB221SN4D
designator FB?, comment 4x 220R
FERRITE ARRAY 220 OHM 0804 SMD; Manufacturer: Murata Electronics North America; Manufacturer Part Number: BLA2ABB221SN4D; Impedance @ Frequency: 220 Ohm @ 100MHz; Current Rating: 50mA; DC Resistance (DCR): 900 mOhm Max; Filter Type: Differential Mode - 4 Line Array; Number of Lines: 4; .Checked PCB: RF; Supplier 1: Digi-Key; Supplier Part Number 1: 490-4010-1-ND; RoHS: RoHS Compliant; Category: Filters; Stock 1: 32117; Pricing 1: 1=0.68, 10=0.57, 50=0.4082, 100=0.3572, 250=0.28064, 500=0.25512, 1000=0.2041, 5000=0.15732 (USD); Package / Case: 0804 (2010 Metric), Array, 8 PC Pad; Mounting Type: Surface Mount; Packaging: Cut Tape (CT); Height (Max): 0.024" (0.60mm); Size / Dimension: 0.079" L x 0.039" W (2.00mm x 1.00mm); ComponentLink1URL: http://search.murata.co.jp/Ceramy/image/img/PDF/ENG/L0110S0102BLA2AA~BLA2AB.pdf; ComponentLink1Description: http://search.murata.co.jp/Ceramy/image/img/PDF/ENG/L0110S0102BLA2AA~BLA2AB.pdf; .Checked SCH: RF
footprint 4x0402_BLA2A_MURATA
pins: 1, 2, 3, 4, 5, 6, 7, 8

## BLM15AX601SN1D
designator FB?
FERRITE CHIP 600 OHM 0402 420mA; Manufacturer: Murata Electronics North America; .Checked PCB: used; Impedance @ Frequency: 600 Ohm @ 100MHz; DC Resistance (DCR): 340 mOhm Max; Filter Type: Differential Mode - Single; Number of Lines: 1; .Checked SCH: used; Category: Filters; Supplier Part Number: 490-5441-1-ND; Manufacturer Part Number: BLM15AX601SN1D; Package / Case: 0402 (1005 Metric); Price 1k [$]: 0.03280; Value: BLM15AX601SN1D; Current Rating: 420mA; Supplier: Digikey; Supplier 1: Digi-Key; Supplier Part Number 1: 490-5441-1-ND; RoHS: RoHS Compliant; Stock 1: 34008; Pricing 1: 1=0.26, 10=0.197, 50=0.1148, 100=0.0918, 250=0.0656, 500=0.0446, 1000=0.03608, 5000=0.02821 (USD); Mounting Type: Surface Mount; Packaging: Cut Tape (CT); Height (Max): 0.022" (0.55mm); Size / Dimension: 0.039" L x 0.020" W (1.00mm x 0.50mm); ComponentLink1URL: http://search.murata.co.jp/Ceramy/image/img/PDF/ENG/L0110S0100BLM15AX_SN.pdf; ComponentLink1Description: http://search.murata.co.jp/Ceramy/image/img/PDF/ENG/L0110S0100BLM15AX_SN.pdf
footprint C0402
pins: 1, 2

## BLM18SG221TN1D
designator FB?, comment 220R, 2.5A
FERRITE CHIP 220 OHM 2500MA 0603; Manufacturer: Murata Electronics North America; Manufacturer Part Number: BLM18SG221TN1D; Impedance @ Frequency: 220 Ohm @ 100MHz; DC Resistance (DCR): 40 mOhm Max; Filter Type: Differential Mode - Single; Number of Lines: 1; .Checked PCB: RF; Supplier 1: Digi-Key; Supplier Part Number 1: 490-5225-1-ND; RoHS: RoHS Compliant; Category: Filters; Stock 1: 54640; Pricing 1: 1=0.38, 10=0.282, 50=0.1646, 100=0.1316, 250=0.094, 500=0.06392, 1000=0.0517, 5000=0.04042 (USD); Current Rating: 2.5A; Package / Case: 0603 (1608 Metric); Mounting Type: Surface Mount; Packaging: Cut Tape (CT); Height (Max): 0.037" (0.95mm); Size / Dimension: 0.063" L x 0.031" W (1.60mm x 0.80mm); ComponentLink1URL: http://search.murata.co.jp/Ceramy/image/img/PDF/ENG/L0110S0100BLM18S.pdf; ComponentLink1Description: http://search.murata.co.jp/Ceramy/image/img/PDF/ENG/L0110S0100BLM18S.pdf; .Checked SCH: RF
footprint C0603
pins: 1, 2

## BR24L02FVM-WTR
designator U?
IC EEPROM 2KBIT 400KHZ 8MSOP; Manufacturer: Rohm Semiconductor; Format - Memory: EEPROMs - Serial; Memory Size: 2K (256 x 8); Interface: I²C, 2-Wire Serial; Voltage - Supply: 1.8 V ~ 5.5 V; .Checked PCB: RF; Supplier 1: Digi-Key; Supplier Part Number 1: BR24L02FVM-WCT-ND; Manufacturer Part Number: BR24L02FVM-WTR; RoHS: RoHS Compliant; Category: Integrated Circuits (ICs); Stock 1: 19923; Pricing 1: 1=0.78, 25=0.602, 100=0.531, 250=0.4602, 500=0.3894, 1000=0.30975 (USD); Memory Type: EEPROM; Speed: 400kHz; Operating Temperature: -40°C ~ 85°C; Package / Case: 8-VSSOP, 8-MSOP (0.110", 2.80mm Width); Supplier Device Package: 8-MSOP; Packaging: Cut Tape (CT); ComponentLink1URL: http://www.rohm.com/products/databook/eeprom/pdf/br24l-e.pdf; ComponentLink1Description: http://www.rohm.com/products/databook/eeprom/pdf/br24l-e.pdf; .Checked SCH: RF
footprint MSOP8 _SMALLER
pins: 1 A0, 2 A1, 3 A2, 4 GND (power), 5 SDA, 6 SCL, 7 WP, 8 VCC (power)

## BZA956A,115
designator D?
TVS ZENER QUAD 5.6V SOT665; Manufacturer: NXP Semiconductors; Voltage - Reverse Standoff (Typ): 3V; Voltage - Breakdown: 5.32V; Power (Watts): 16W; Polarization: 4 Channel Array - Unidirectional; .Creator: MM; Supplier 1: Digi-Key; Manufacturer Part Number: BZA956A,115; RoHS: RoHS Compliant; Category: Circuit Protection; Stock 1: 7740; Pricing 1: 1=0.55, 10=0.386, 25=0.3176, 100=0.2537, 250=0.1848, 500=0.15008, 1000=0.11536 (USD); Packaging: Cut Tape (CT); Mounting Type: Surface Mount; Package / Case: SOT-665; Supplier Device Package: SOT-665; ComponentLink1URL: http://www.nxp.com/documents/data_sheet/BZA900A_SERIES.pdf; ComponentLink1Description: http://www.nxp.com/documents/data_sheet/BZA900A_SERIES.pdf; Supplier Part Number 1: 568-7016-1-ND; .Checked PCB: MM; .Checked SCH: MM
footprint SOT665 (Creator MM)
pins: 1, 2, 3, 4, 5

## C1005C0G1H101J
designator C?, comment 100pF
CAP CER 100PF 50V 5% NP0 0402; Manufacturer: TDK Corporation; Manufacturer Part Number: C1005C0G1H101J; Temperature Coefficient: C0G, NP0; .Checked PCB: RF; Supplier 1: Digi-Key; Supplier Part Number 1: 445-1247-1-ND; RoHS: RoHS Compliant; Category: Capacitors; Stock 1: 298233; Pricing 1: 1=0.08, 10=0.05, 100=0.018, 250=0.013, 500=0.0096, 1000=0.0065 (USD); Capacitance: 100pF; Voltage - Rated: 50V; Tolerance: ±5%; Mounting Type: Surface Mount, MLCC; Operating Temperature: -55°C ~ 125°C; Applications: General Purpose; Ratings: -; Package / Case: 0402 (1005 Metric); Size / Dimension: 0.039" L x 0.020" W (1.00mm x 0.50mm); Height - Seated (Max): -; Thickness (Max): 0.022" (0.55mm); Lead Spacing: -; Features: -; Packaging: Cut Tape (CT); Lead Style: -; ComponentLink1URL: http://www.tdk.com/pdf/general_B11.pdf; ComponentLink1Description: http://www.tdk.com/pdf/general_B11.pdf; .Checked SCH: RF
footprint C0402
pins: 1, 2

## C1005C0G1H180J
designator C?, comment 18p
CAP CER 18PF 50V C0G 5% 0402; Manufacturer: TDK Corporation; Manufacturer Part Number: C1005C0G1H180J; .Checked PCB: used; Temperature Coefficient: C0G, NP0; Capacitance: 18pF; Category: Capacitors; Supplier Part Number: 445-1238-1-ND; Operating Temperature: -55°C ~ 125°C; Package / Case: 0402 (1005 Metric); Price 1k [$]: 0.00468; Value: 18pF; .Checked SCH: used; Voltage - Rated: 50V; Supplier: Digikey; Supplier 1: Digi-Key; Supplier Part Number 1: 445-1238-1-ND; RoHS: RoHS Compliant; Stock 1: 24321; Pricing 1: 1=0.08, 10=0.05, 100=0.018, 250=0.013, 500=0.0096, 1000=0.0065 (USD); Tolerance: ±5%; Mounting Type: Surface Mount, MLCC; Applications: General Purpose; Ratings: -; Size / Dimension: 0.039" L x 0.020" W (1.00mm x 0.50mm); Height - Seated (Max): -; Thickness (Max): 0.022" (0.55mm); Lead Spacing: -; Features: -; Packaging: Cut Tape (CT); Lead Style: -; ComponentLink1URL: http://www.tdk.co.jp/tefe02/e412_c.pdf; ComponentLink1Description: http://www.tdk.co.jp/tefe02/e412_c.pdf
footprint C0402
pins: 1, 2

## C1005X5R1A225K
designator C?, comment 2u2
CAP CER 2.2UF 10V 10% X5R 0402; Manufacturer: TDK Corporation; Manufacturer Part Number: C1005X5R1A225K; Capacitance: 2.2µF; .Checked PCB: RF; Supplier 1: Digi-Key; Supplier Part Number 1: 445-7392-1-ND; RoHS: RoHS Compliant; Category: Capacitors; Stock 1: 22891; Pricing 1: 1=0.42, 10=0.332, 100=0.2, 250=0.15, 500=0.128, 1000=0.1 (USD); Voltage - Rated: 10V; Tolerance: ±10%; Temperature Coefficient: X5R; Mounting Type: Surface Mount, MLCC; Operating Temperature: -55°C ~ 85°C; Applications: General Purpose; Ratings: -; Package / Case: 0402 (1005 Metric); Size / Dimension: 0.039" L x 0.020" W (1.00mm x 0.50mm); Height - Seated (Max): -; Thickness (Max): 0.022" (0.55mm); Lead Spacing: -; Features: -; Packaging: Cut Tape (CT); Lead Style: -; ComponentLink1URL: http://www.tdk.com/pdf/general_B11.pdf; ComponentLink1Description: http://www.tdk.com/pdf/general_B11.pdf; .Checked SCH: RF
footprint C0402
pins: 1, 2

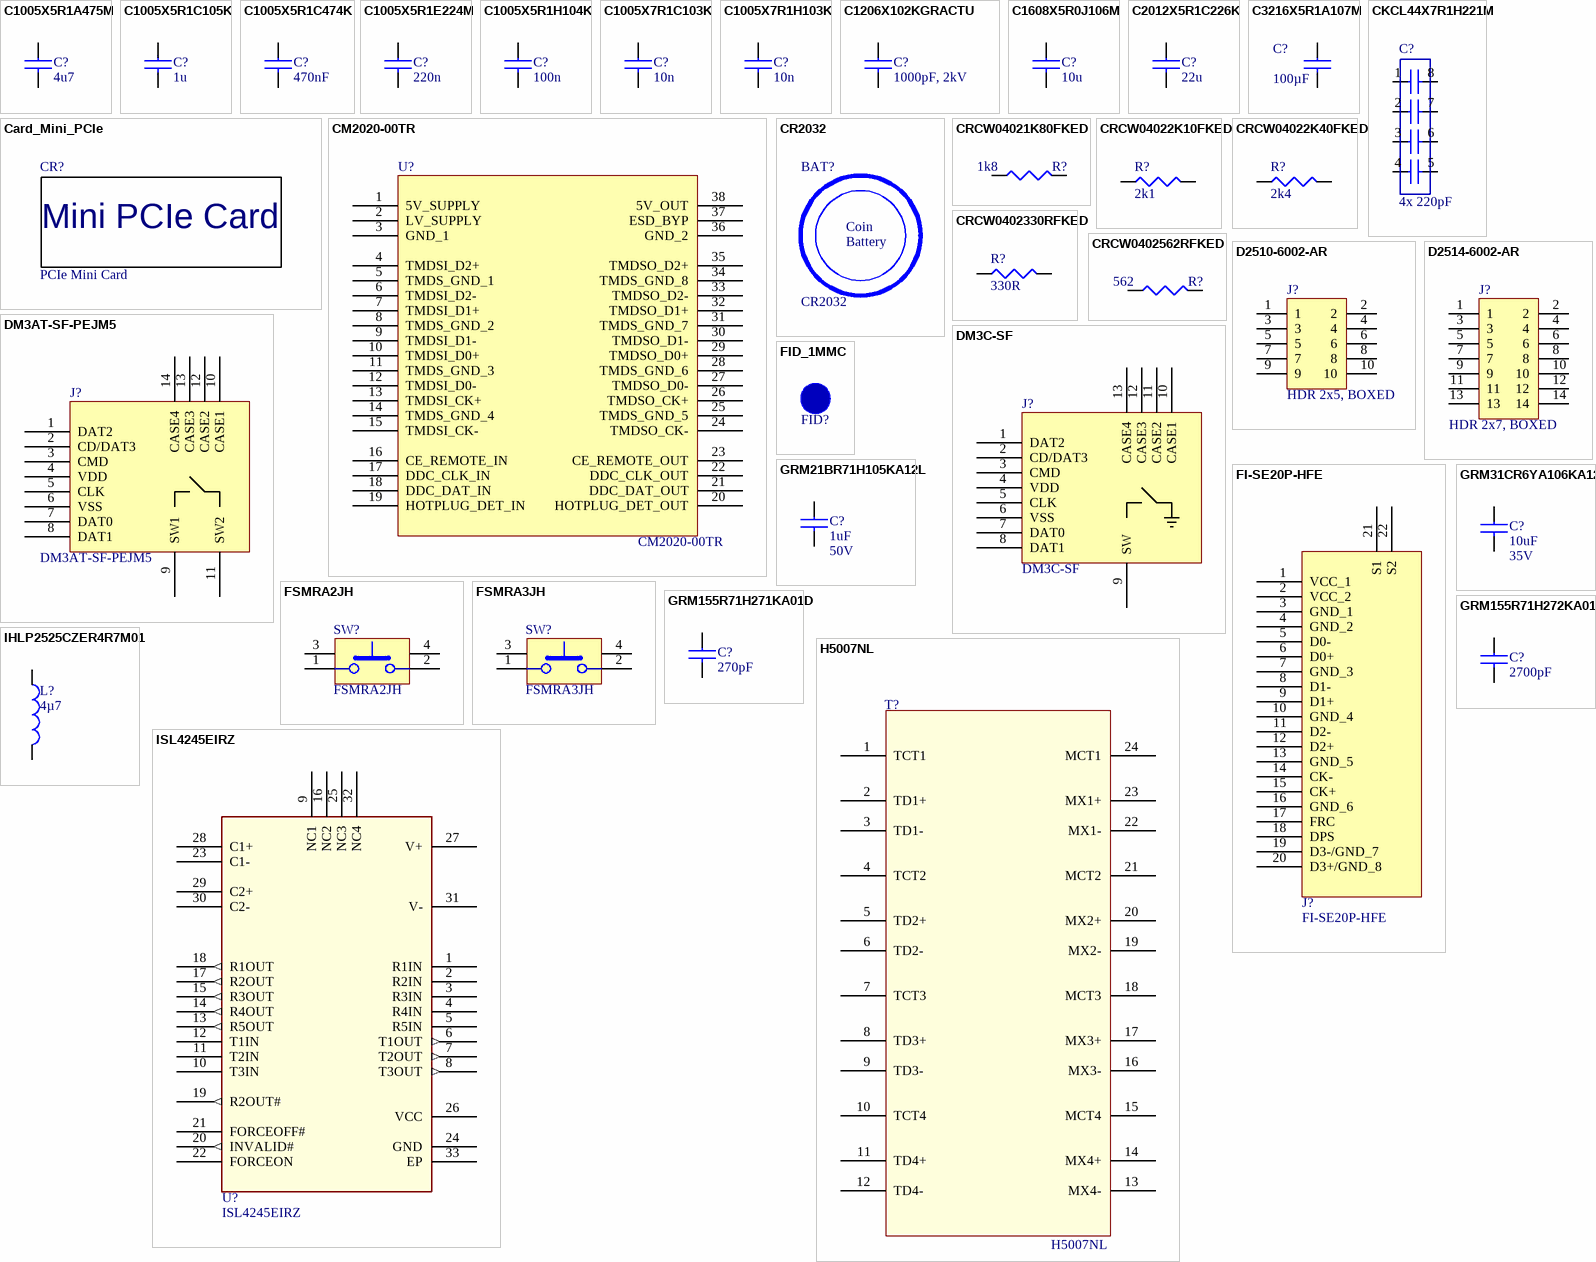
[diagram p1: symbols C1005X5R1A475M to ISL4245EIRZ]

## C1005X5R1A475M
designator C?, comment 4u7
CAP CER 4.7UF 10V 20% X5R 0402; Manufacturer: TDK Corporation; Manufacturer Part Number: C1005X5R1A475M; Capacitance: 4.7µF; .Checked PCB: RF; Supplier 1: Digi-Key; Supplier Part Number 1: 445-8023-1-ND; RoHS: RoHS Compliant; Category: Capacitors; Stock 1: 10140; Pricing 1: 1=0.53, 10=0.415, 100=0.25, 250=0.18752, 500=0.16, 1000=0.125, 5000=0.095 (USD); Voltage - Rated: 10V; Tolerance: ±20%; Temperature Coefficient: X5R; Mounting Type: Surface Mount, MLCC; Operating Temperature: -55°C ~ 85°C; Applications: General Purpose; Ratings: -; Package / Case: 0402 (1005 Metric); Size / Dimension: 0.039" L x 0.020" W (1.00mm x 0.50mm); Height - Seated (Max): -; Thickness (Max): -; Lead Spacing: -; Features: -; Packaging: Cut Tape (CT); Lead Style: -; ComponentLink1URL: http://www.tdk.com/pdf/general_B11.pdf; ComponentLink1Description: http://www.tdk.com/pdf/general_B11.pdf; .Checked SCH: RF
footprint C0402
pins: 1, 2

## C1005X5R1C105K
designator C?, comment 1u
CAP CER 1.0UF 16V X5R 0402; Manufacturer: TDK Corporation; Manufacturer Part Number: C1005X5R1C105K; Capacitance: 1.0µF; Value: 1uF; .Checked PCB: used; Tolerance: ±10%; Category: Capacitors; Operating Temperature: -55°C ~ 85°C; Package / Case: 0402 (1005 Metric); Price 1k [$]: 0.02080; .Checked SCH: used; Voltage - Rated: 16V; Supplier Part Number: 445-4978-1-ND; Supplier: Digikey; Supplier 1: Digi-Key; Supplier Part Number 1: 445-4978-1-ND; RoHS: RoHS Compliant; Stock 1: 341010; Pricing 1: 1=0.24, 10=0.16, 100=0.064, 250=0.046, 500=0.0328, 1000=0.024 (USD); Temperature Coefficient: X5R; Mounting Type: Surface Mount, MLCC; Applications: General Purpose; Ratings: -; Size / Dimension: 0.039" L x 0.020" W (1.00mm x 0.50mm); Height - Seated (Max): -; Thickness (Max): 0.022" (0.55mm); Lead Spacing: -; Features: -; Packaging: Cut Tape (CT); Lead Style: -; ComponentLink1URL: http://www.tdk.co.jp/tefe02/e412_c.pdf; ComponentLink1Description: http://www.tdk.co.jp/tefe02/e412_c.pdf
footprint C0402
pins: 1, 2

## C1005X5R1C474K
designator C?, comment 470nF
CAP CER .47UF 16V X5R 0402; Manufacturer: TDK Corporation; Manufacturer Part Number: C1005X5R1C474K; Capacitance: 0.47µF; .Checked PCB: used; Tolerance: ±10%; Category: Capacitors; Supplier Part Number: 445-4976-1-ND; Operating Temperature: -55°C ~ 85°C; Package / Case: 0402 (1005 Metric); Price 1k [$]: 0.02400; Value: 470nF; .Checked SCH: used; Voltage - Rated: 16V; Supplier: Digikey; Supplier 1: Digi-Key; Supplier Part Number 1: 445-4976-1-ND; RoHS: RoHS Compliant; Stock 1: 141502; Pricing 1: 1=0.24, 10=0.16, 100=0.064, 250=0.046, 500=0.0328, 1000=0.024 (USD); Temperature Coefficient: X5R; Mounting Type: Surface Mount, MLCC; Applications: General Purpose; Ratings: -; Size / Dimension: 0.039" L x 0.020" W (1.00mm x 0.50mm); Height - Seated (Max): -; Thickness (Max): 0.022" (0.55mm); Lead Spacing: -; Features: -; Packaging: Cut Tape (CT); Lead Style: -; ComponentLink1URL: http://www.tdk.co.jp/tefe02/e412_c.pdf; ComponentLink1Description: http://www.tdk.co.jp/tefe02/e412_c.pdf
footprint C0402
pins: 1, 2

## C1005X5R1E224M
designator C?, comment 220n
CAP CER .22UF 25V X5R 20% 0402; Manufacturer: TDK Corporation; Manufacturer Part Number: C1005X5R1E224M; Capacitance: 0.22µF; Value: 220nF; .Checked PCB: used; Category: Capacitors; Supplier Part Number: 445-5945-1-ND; Operating Temperature: -55°C ~ 85°C; Package / Case: 0402 (1005 Metric); Price 1k [$]: 0.02600; .Checked SCH: used; Voltage - Rated: 25V; Supplier: Digikey; Supplier 1: Digi-Key; Supplier Part Number 1: 445-5945-1-ND; RoHS: RoHS Compliant; Stock 1: 54593; Pricing 1: 1=0.3, 10=0.2, 100=0.08, 250=0.05752, 500=0.041, 1000=0.03 (USD); Tolerance: ±20%; Temperature Coefficient: X5R; Mounting Type: Surface Mount, MLCC; Applications: General Purpose; Ratings: -; Size / Dimension: 0.039" L x 0.020" W (1.00mm x 0.50mm); Height - Seated (Max): -; Thickness (Max): 0.022" (0.55mm); Lead Spacing: -; Features: -; Packaging: Cut Tape (CT); Lead Style: -; ComponentLink1URL: http://www.tdk.co.jp/tefe02/e412_c.pdf; ComponentLink1Description: http://www.tdk.co.jp/tefe02/e412_c.pdf
footprint C0402
pins: 1, 2

## C1005X5R1H104K
designator C?, comment 100n
CAP CER .10UF 50V X5R 10% 0402; Manufacturer: TDK Corporation; Manufacturer Part Number: C1005X5R1H104K; Capacitance: 0.1µF; Value: 100nF; .Checked PCB: used; Category: Capacitors; Supplier Part Number: 445-5942-1-ND; Operating Temperature: -55°C ~ 85°C; Package / Case: 0402 (1005 Metric); Price 1k [$]: 0.02340; .Checked SCH: used; Voltage - Rated: 50V; Supplier: Digikey; Supplier 1: Digi-Key; Supplier Part Number 1: 445-5942-1-ND; RoHS: RoHS Compliant; Stock 1: 106926; Pricing 1: 1=0.27, 10=0.18, 100=0.072, 250=0.05176, 500=0.0369, 1000=0.027 (USD); Tolerance: ±10%; Temperature Coefficient: X5R; Mounting Type: Surface Mount, MLCC; Applications: General Purpose; Ratings: -; Size / Dimension: 0.039" L x 0.020" W (1.00mm x 0.50mm); Height - Seated (Max): -; Thickness (Max): 0.022" (0.55mm); Lead Spacing: -; Features: -; Packaging: Cut Tape (CT); Lead Style: -; ComponentLink1URL: http://www.tdk.co.jp/tefe02/e412_c.pdf; ComponentLink1Description: http://www.tdk.co.jp/tefe02/e412_c.pdf
footprint C0402
pins: 1, 2

## C1005X7R1C103K
designator C?, comment 10n
CAP CER 10000PF 16V X7R 10% 0402; Manufacturer: TDK Corporation; Manufacturer Part Number: C1005X7R1C103K; Value: 10nF; .Checked PCB: used; Capacitance: 10000pF; Category: Capacitors; Operating Temperature: -55°C ~ 125°C; Package / Case: 0402 (1005 Metric); Price 1k [$]: 0.00416; .Checked SCH: used; Voltage - Rated: 16V; Supplier Part Number: 445-1262-1-ND; Supplier: Digikey; Supplier 1: Digi-Key; Supplier Part Number 1: 445-1262-1-ND; RoHS: RoHS Compliant; Stock 1: 511497; Pricing 1: 1=0.08, 10=0.05, 100=0.018, 250=0.013, 500=0.0096, 1000=0.0065 (USD); Tolerance: ±10%; Temperature Coefficient: X7R; Mounting Type: Surface Mount, MLCC; Applications: General Purpose; Ratings: -; Size / Dimension: 0.039" L x 0.020" W (1.00mm x 0.50mm); Height - Seated (Max): -; Thickness (Max): 0.022" (0.55mm); Lead Spacing: -; Features: -; Packaging: Cut Tape (CT); Lead Style: -; ComponentLink1URL: http://www.tdk.co.jp/tefe02/e412_c.pdf; ComponentLink1Description: http://www.tdk.co.jp/tefe02/e412_c.pdf
footprint C0402
pins: 1, 2

## C1005X7R1H103K
designator C?, comment 10n
CAP CER 10000PF 50V 10% X7R 0402; Manufacturer: TDK Corporation; Manufacturer Part Number: C1005X7R1H103K; Value: 10nF; .Checked PCB: RF; Capacitance: 10000pF; Category: Capacitors; Supplier Part Number: 445-6850-1-ND; Operating Temperature: -55°C ~ 125°C; Package / Case: 0402 (1005 Metric); Price 1k [$]: 0.01625; .Checked SCH: RF; Voltage - Rated: 50V; Supplier: Digikey; Supplier 1: Digi-Key; Supplier Part Number 1: 445-6850-1-ND; RoHS: RoHS Compliant; Stock 1: 3901; Pricing 1: 1=0.2, 10=0.125, 100=0.045, 250=0.03252, 500=0.024, 1000=0.01625 (USD); Tolerance: ±10%; Temperature Coefficient: X7R; Mounting Type: Surface Mount, MLCC; Applications: General Purpose; Ratings: -; Size / Dimension: 0.039" L x 0.020" W (1.00mm x 0.50mm); Height - Seated (Max): -; Thickness (Max): 0.022" (0.55mm); Lead Spacing: -; Features: -; Packaging: Cut Tape (CT); Lead Style: -; ComponentLink1URL: http://www.tdk.co.jp/tefe02/e412_c.pdf; ComponentLink1Description: http://www.tdk.co.jp/tefe02/e412_c.pdf
footprint C0402
pins: 1, 2